# Altium schematic symbol library Project_Libary.SchLib: 8 symbols
Pins are listed as number, name and electrical type; pins without a type are passive.

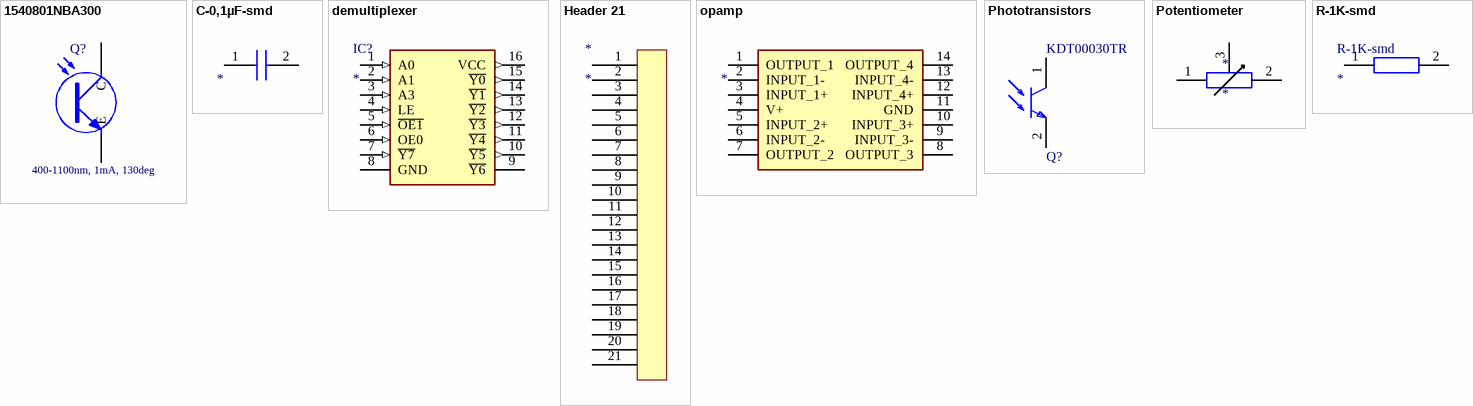
[diagram p0: symbols 1540801NBA300 to R-1K-smd]

## 1540801NBA300
designator Q?, comment 400-1100nm, 1mA, 130deg
WL-STCW SMT Phototransistor Chip Waterclear, size 0805, 400-1100nm, 1mA, 130deg; Manufacturer Part Number: 1540801NBA300; Collector-Emitter Dark Current max.: 100nA; Chip Technology: Si; Range of Spectral Bandwidth max.: 1100nm; Range of Spectral Bandwidth min.: 400nm; Wavelength of Peak Sensitivity typ.: 940nm; Collector Current min.: 0.1mA; ComponentLink1Description: Manufacturer; ComponentLink1URL: http://www.we-online.de; ComponentLink2Description: Datasheet; ComponentLink2URL: https://www.we-online.com/catalog/datasheet/1540801NBA300.pdf; Packaging: Tape and Reel; Published Date: March 2020; Publisher: Wurth Elektronik; Size: 0805; Mounting Technology: SMT; Operating Temperature: -40 to +85degC; Viewing Angle: 130deg; Collector Current typ.: 1mA
footprint WL-STCW_0805 (SMT Phototransistor Chip Waterclear, body 2x1.3mm)
pins: 1 C, 2 E

## C-0,1µF-smd
designator ?
Capacitor; Manufacturer_Name: Kemet; Manufacturer_Part_Number: C0805C104K5RAC7411; Datasheet Link: https://componentsearchengine.com//C0805C104K5RAC7411.pdf; Height: 0.88mm; Mouser2 Part Number: 80-C0805C104K5RACLR; Mouser2 Price/Stock: https://www.mouser.com/Search/Refine.aspx?Keyword=80-C0805C104K5RACLR
footprint C-0,1µF-smd
pins: 1, 2

## demultiplexer
designator IC?
Integrated Circuit; Manufacturer_Name: Texas Instruments; Manufacturer_Part_Number: CD74HC237M; Datasheet Link: http://www.ti.com/lit/ds/symlink/cd74hc237.pdf; Height: 1.75mm; Mouser2 Part Number: 595-CD74HC237M; Mouser2 Price/Stock: https://www.mouser.com/Search/Refine.aspx?Keyword=595-CD74HC237M
footprint demultiplexer
pins: 1 A0 (in), 2 A1 (in), 3 A3 (in), 4 LE (in), 5 ~{OE1} (in), 6 OE0 (in), 7 ~{Y7} (in), 8 GND (power), 9 ~{Y6} (power), 10 ~{Y5} (out), 11 ~{Y4} (out), 12 ~{Y3} (out), 13 ~{Y2} (out), 14 ~{Y1} (out), 15 ~{Y0} (out), 16 VCC (out)

## Header 21
designator *
footprint Header 21
pins: 1, 2, 3, 4, 5, 6, 7, 8, 9, 10, 11, 12, 13, 14, 15, 16, 17, 18, 19, 20, 21

## opamp
designator ?
Integrated Circuit; Manufacturer_Name: Texas Instruments; Manufacturer_Part_Number: LM2902MTX/NOPB; Datasheet Link: http://www.ti.com/lit/gpn/lm2902-n; Height: 1.2mm; Mouser2 Part Number: 926-LM2902MTX/NOPB; Mouser2 Price/Stock: https://www.mouser.com/Search/Refine.aspx?Keyword=926-LM2902MTX%2FNOPB
footprint opamp
pins: 1 OUTPUT_1, 2 INPUT_1-, 3 INPUT_1+, 4 V+, 5 INPUT_2+, 6 INPUT_2-, 7 OUTPUT_2, 8 OUTPUT_3, 9 INPUT_3-, 10 INPUT_3+, 11 GND, 12 INPUT_4+, 13 INPUT_4-, 14 OUTPUT_4

## Phototransistors
designator Q?, comment KDT00030TR
SENSOR PHOTO 630NM TOP VIEW 2SMD; Manufacturer: ON Semiconductor; Sensor Output: Other; Dark Current: 0.1uA; Digikey Description: SENSOR PHOTO 630NM TOP VIEW 2SMD; Temperature: -40°C to +85°C; Device Class L2: Optical Sensors; Led Orientation: Top View; RoHS: TRUE; Category: Trans; Octopart: https://octopart.com/kdt00030tr-on+semiconductor-84329376; Manufacturer Part Number: KDT00030TR; Height: 0.7mm; Mouser Description: Phototransistors Plastic Silicon Phototransistor; Device Class L3: Phototransistor; Package: 100CP; Device Class L1: Sensors; Temperature Range High: +85°C; Automotive: No; ComponentLink2URL: https://www.onsemi.com/pub/Collateral/KDT00030-D.PDF; Wavelength: 630nm; Lead Free: Yes; Footprint Url: https://www.onsemi.com/pub/Collateral/100CP.PDF; Temperature Range Low: -40°C; ComponentLink2Description: Datasheet
footprint Phototransistors
pins: 1 C, 2 E

## Potentiometer
designator *
PT10LH01-104A2020-S
footprint Potentiometer (PT10LH01-104A2020-S)
pins: 1, 2, 3

## R-1K-smd
designator R-1K-smd
Resistor; Manufacturer_Name: YAGEO (PHYCOMP); Manufacturer_Part_Number: RC0805FR-131KL; Datasheet Link: https://datasheet.datasheetarchive.com/originals/distributors/Datasheets_SAMA/902f9e387b938f871d31120f5fc1d65e.pdf; Height: 0.6mm
footprint R-1K-smd
pins: 1, 2